# Altium schematic symbol library NOR_GATE.SchLib: 1 symbol
Pins are listed as number, name and electrical type; pins without a type are passive.

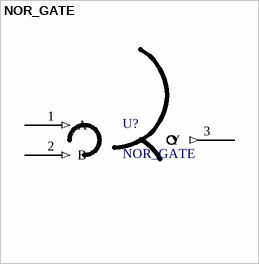
[diagram p0: symbol NOR_GATE]

## NOR_GATE
designator U?
NOR gate symbol
pins: 1 A (in), 2 B (in), 3 Y (out)